# Altium schematic symbol library U_AP2141W.SchLib: 1 symbol
Pins are listed as number, name and electrical type; pins without a type are passive.

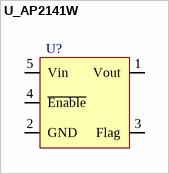
[diagram p0: symbol U_AP2141W]

## U_AP2141W
designator U?
pins: 1 Vout, 2 GND (power), 3 Flag, 4 ~{Enable}, 5 Vin